# Altium footprint library LFCSP-10.PcbLib: 1 footprints
Each footprint in its own frame and in the unit in brackets; x right, y up, seen from the top. Pads: shape width x height; smd on the part's side, far side on the other; paste and mask are expansions set on the pad; w line width, h text height; cw(c..) or ccw(c..) is an arc to the next point about the centre after c.
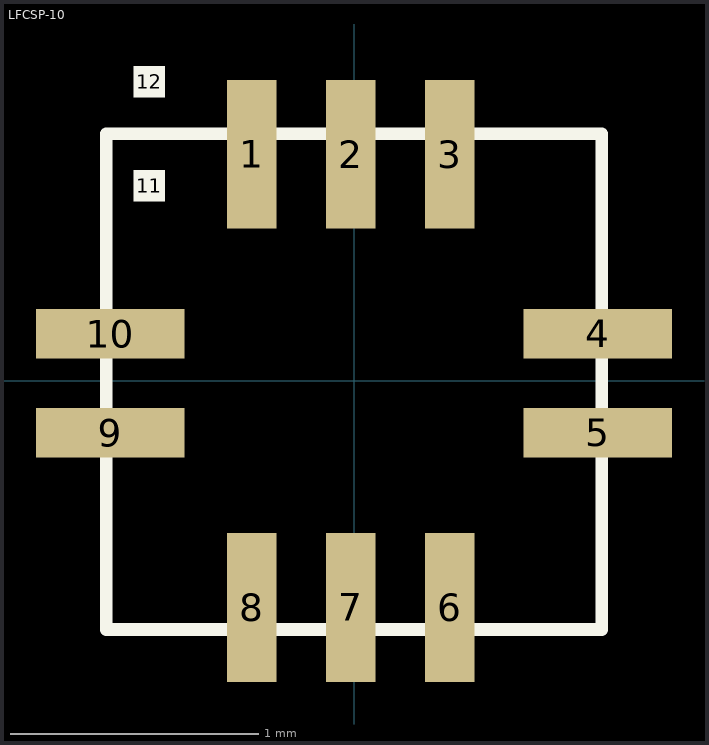
[diagram p0: the footprint, top view; thin cyan lines are the x and y axes]

## LFCSP-10 [mm]
pads (12):
  rect 0.2x0.6 smd: 1(-0.413,0.914) 2(-0.013,0.914) 3(0.387,0.914) 6(0.387,-0.914) 7(-0.013,-0.914) 8(-0.413,-0.914)
  rect 0.6x0.2 smd: 4(0.984,0.191) 5(0.984,-0.209) 9(-0.984,-0.209) 10(-0.984,0.191)
  rect 0.127x0.127 on Top Overlay: 11(-0.826,0.787) 12(-0.826,1.206)
Top Overlay:
  lines w0.051: -1,-1.003 1,-1.003 1,0.997 -1,0.997 -1,-1.003